# Altium integrated library TSM-103-01-L-SV.IntLib: 1 symbol
Pins are listed as number, name and electrical type; pins without a type are passive.

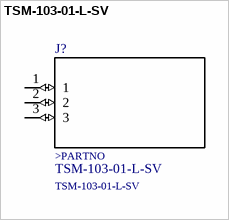
[diagram p0: symbol TSM-103-01-L-SV]

## TSM-103-01-L-SV
designator J?
TSM Series .100 Surface Mount Terminal Strip; MF: Samtec; MP: TSM-103-01-L-SV; Package: LQFP-48 Samtec; SnapEDA_Link: https://www.snapeda.com/parts/TSM-103-01-L-SV/Samtec%20Inc./view-part/?ref=snap; Digi-Key_Part_Number: SAM8981-ND; Digi-Key_Purchase_URL: https://www.digikey.ca/product-detail/en/samtec-inc/TSM-103-01-L-SV/SAM8981-ND/2685552?utm_source=snapeda&utm_medium=aggregator&utm_campaign=symbol; Value: *
footprint *TSM-103-01-L-SV
pins: 1 (io), 2 (io), 3 (io)
text: >PARTNO